# Altium schematic symbol library Schlib1.SchLib: 57 symbols (part 2 of 2)
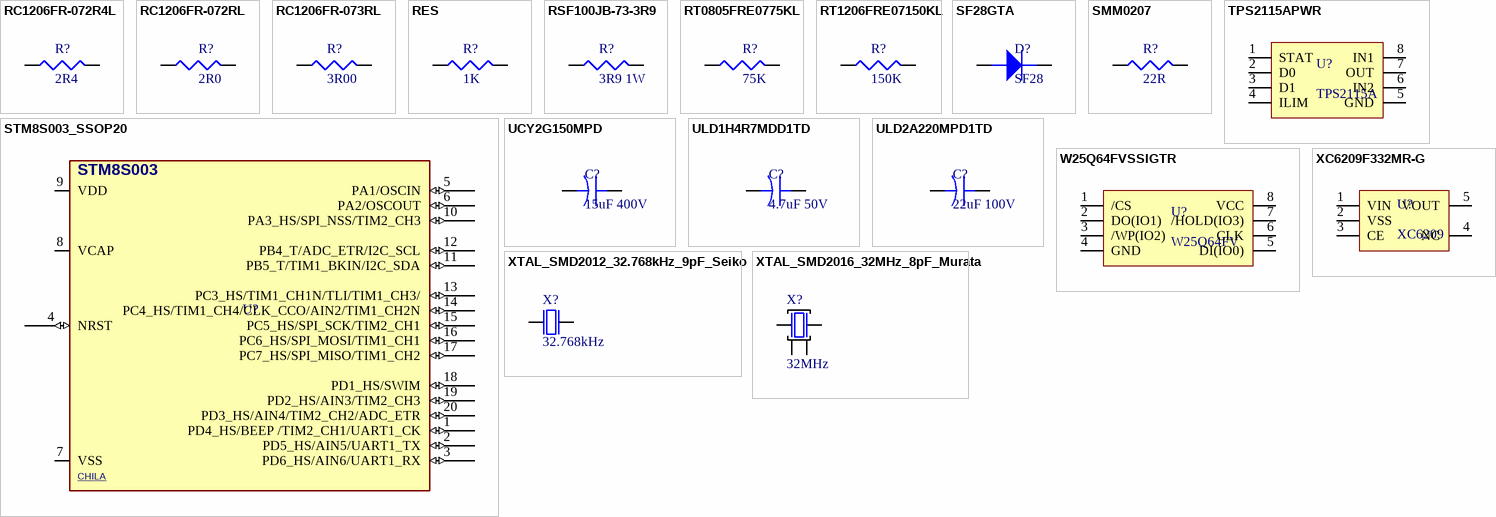
[diagram p2: symbols RC1206FR-072R4L to XTAL_SMD2016_32MHz_8pF_Murata]

## UCY2G150MPD
designator C?, comment 15uF 400V
Aluminum Electrolytic Capacitors - Leaded 400volts 15uF 105c; Manufacturer: Nichicon; Manufacturer Part Number: UCY2G150MPD; Tolerance: 20%; Ripple Current: 180mA; Polarity: Polar; Life (Hours): 8000Hour; Dissipation Factor: 0.24%; Supplier 1: Digi-Key; RoHS: Yes; Category: Aluminum Electrolytic Capacitors; Stock 1: 6558; Pricing 1: 1=1/10000, 10=0/83900, 50=0/69700, 100=0/60030, 500=0/46472, 1000=0/40017, 2500=0/37435, 5000=0/35499 (USD); Mount: Through Hole; Case/Package: Radial; Min Operating Temperature: -40°C; Max Operating Temperature: 105°C; Package Quantity: 200; Capacitance: 15uF; Voltage Rating: 400V; Packaging: Bulk; Voltage Rating (DC): 400V; Termination: Radial; Series: CY; Diameter: 10mm; Length: 20mm; Height: 20mm; Lead Pitch: 5mm; Height - Seated (Max): 0.846inch; Radiation Hardening: No; RoHS Compliant: Yes; ComponentLink1URL: https://datasheet.ciiva.com/114/e-cy-114566.pdf?src-supplier=Digi-Key; ComponentLink1Description: https://datasheet.ciiva.com/114/e-cy-114566.pdf?src-supplier=Digi-Key; ComponentLink2URL: https://datasheet.ciiva.com/11686/e-cy-11686537.pdf?src-supplier=Avnet; ComponentLink2Description: https://datasheet.ciiva.com/11686/e-cy-11686537.pdf?src-supplier=Avnet; ComponentLink3URL: https://datasheet.ciiva.com/17526/e-cy-17526491.pdf?src-supplier=Avnet+Europe; ComponentLink3Description: https://datasheet.ciiva.com/17526/e-cy-17526491.pdf?src-supplier=Avnet+Europe; ComponentLink4URL: https://datasheet.ciiva.com/5329/e-cy-8386-5329868.pdf?src-supplier=Mouser; ComponentLink4Description: https://datasheet.ciiva.com/5329/e-cy-8386-5329868.pdf?src-supplier=Mouser; Supplier Part Number 1: 493-14460-ND
footprint CAP-10x20
footprint CAP-10x20-right
pins: 1, 2

## ULD1H4R7MDD1TD
designator C?, comment 4.7uF 50V
Cap Aluminum 4.7uF 50V 20% Radial Aluminum Cylindrical Can 2mm 80mA 10000 hr 105°C Ammo Pack; Manufacturer: Nichicon; Manufacturer Part Number: ULD1H4R7MDD1TD; Life (Hours): 10000Hour; Leakage Current: 3uA; Supplier 1: Digi-Key; RoHS: Yes; Category: Uncategorized; Stock 1: 4711; Pricing 1: 1=0/30000, 10=0/20800, 50=0/13840, 100=0/11770, 500=0/08308, 1000=0/07269 (USD); Case/Package: Radial; Max Operating Temperature: 105°C; Termination: Radial; Packaging: Ammo Pack; Voltage Rating (DC): 50V; Tolerance: 20%; Ripple Current: 80mA; Package Quantity: 2000; Capacitance: 4.7uF; Diameter: 5mm; Length: 11mm; ComponentLink1URL: http://www.mouser.com/ds/2/293/e-uld-884079.pdf?src-supplier=Mouser; ComponentLink1Description: http://www.mouser.com/ds/2/293/e-uld-884079.pdf?src-supplier=Mouser; Supplier Part Number 1: 493-16254-1-ND
footprint CAP-5x11
pins: 1, 2

## ULD2A220MPD1TD
designator C?, comment 22uF 100V
Cap Aluminum 22uF 100V 20% Radial Aluminum Cylindrical Can 3.5mm 230mA 10000 hr 105°C Ammo Pack; Manufacturer: Nichicon; Manufacturer Part Number: ULD2A220MPD1TD; Life (Hours): 10000Hour; Leakage Current: 22uA; Supplier 1: Digi-Key; RoHS: Yes; Category: Uncategorized; Stock 1: 4188; Pricing 1: 1=0/50000, 10=0/34700, 50=0/24320, 100=0/20840, 500=0/15628 (USD); Case/Package: Radial; Max Operating Temperature: 105°C; Termination: Radial; Packaging: Ammo Pack; Voltage Rating (DC): 100V; Tolerance: 20%; Ripple Current: 230mA; Package Quantity: 1000; Capacitance: 22uF; Diameter: 8mm; Length: 11.5mm; ComponentLink1URL: http://www.mouser.com/ds/2/293/e-uld-884079.pdf?src-supplier=Mouser; ComponentLink1Description: http://www.mouser.com/ds/2/293/e-uld-884079.pdf?src-supplier=Mouser; Supplier Part Number 1: 493-16262-1-ND
footprint CAP-8x11.5
pins: 1, 2

## W25Q64FVSSIGTR
designator U?, comment W25Q64FV
IC FLASH 64MBIT 104MHZ 8SOIC; Manufacturer: Winbond; Manufacturer Part Number: W25Q64FVSSIGTR; Interface: SPI,Serial; Memory Type: FLASH,NOR; Supplier 1: Digi-Key; RoHS: Yes; Category: Flash; Case/Package: SOIC; Number of Pins: 8; Min Operating Temperature: -40°C; Max Operating Temperature: 85°C; Package Quantity: 2000; Packaging: Tape and Reel; Frequency: 104MHz; ComponentLink1URL: https://datasheet.ciiva.com/15048/w25q64fv-15048256.pdf?src-supplier=Digi-Key; ComponentLink1Description: https://datasheet.ciiva.com/15048/w25q64fv-15048256.pdf?src-supplier=Digi-Key; Supplier Part Number 1: W25Q64FVSSIG CT-ND
footprint SOIC-8-208mil
pins: 1 /CS, 2 DO(IO1), 3 /WP(IO2), 4 GND, 5 DI(IO0), 6 CLK, 7 /HOLD(IO3), 8 VCC

## XC6209F332MR-G
designator U?, comment XC6209
IC REG LINEAR 3.3V 300MA SOT25; Manufacturer: Torex; Manufacturer Part Number: XC6209F332MR-G; Dropout Voltage: 200mV; Number of Regulators: 1; Supplier 1: Digi-Key; RoHS: Yes; Category: Voltage Regulators - Linear; Stock 1: 3357; Pricing 1: 1=0/70000, 10=0/61200, 25=0/57520, 100=0/46930, 250=0/43592, 500=0/37100, 1000=0/29680 (USD); Mount: Surface Mount; Case/Package: SOT-25; Min Operating Temperature: -40°C; Max Operating Temperature: 85°C; Package Quantity: 1; Packaging: Tape and Reel; Output Voltage: 3.3V; Output Current: 300mA; Series: -; RoHS Compliant: Yes; ComponentLink1URL: https://datasheet.ciiva.com/2039/xc6209-12-2039748.pdf?src-supplier=Digi-Key; ComponentLink1Description: https://datasheet.ciiva.com/2039/xc6209-12-2039748.pdf?src-supplier=Digi-Key; ComponentLink2URL: https://datasheet.ciiva.com/2039/xc6209-12-2039749.pdf?src-supplier=Digi-Key; ComponentLink2Description: https://datasheet.ciiva.com/2039/xc6209-12-2039749.pdf?src-supplier=Digi-Key; ComponentLink3URL: https://datasheet.ciiva.com/2039/xc6209-12-2039750.pdf?src-supplier=Digi-Key; ComponentLink3Description: https://datasheet.ciiva.com/2039/xc6209-12-2039750.pdf?src-supplier=Digi-Key; Supplier Part Number 1: 893-1070-1-ND
footprint SOT-25
pins: 1 VIN, 2 VSS, 3 CE, 4 NC, 5 VOUT

## XTAL_SMD2012_32.768kHz_9pF_Seiko
designator X?, comment 32.768kHz
XTAL SMD 2012, 32.768kHz, 9pF, ±20ppm; Part Number: XTAL_SMD2012_32.768kHz_9pF_Seiko; Manufacturer: Seiko; Manufacturer Part Number: SC20S-9.0PF20PPM; Part number IPS: 80000001425; Note: XTAL SMD 32.768kHz; Artikkelnr Noca: N.A.; LatestRevisionDate: 2017-11-09; Pin Count: 2; Publisher: Nordic Semiconductor; Published: 2015-10-15; Value: 32.768kHz; Footprint Doc: XTAL_2012; ComponentLink1Description: Datasheet; ComponentLink1URL: *; ComponentLink2Description: Supplier link; ComponentLink2URL: *; HelpURL: http://www.sii.co.jp/en/quartz/files/2013/03/file_PRODUCT_MASTER_50811_GRAPHIC03.pdf; Supplier 1: *; Supplier Part Number 1: *; Supplier 2: *; Supplier Part Number 2: *
footprint XTAL_2012
pins: 1 inp, 2 out

## XTAL_SMD2016_32MHz_8pF_Murata
designator X?, comment 32MHz
XTAL SMD 2016, 32MHz, Cl=8pF, Tol: ±10ppm, Stab: ±10ppm; Part Number: XTAL_SMD2016_32MHz_8pF_Murata; Manufacturer: Murata; Manufacturer Part Number: XRCGB32M000F1H01R0; Part number IPS: 80000001424; Note: XTAL SMD 32.000MHz; Artikkelnr Noca: N.A.; Pad Count: 4; LatestRevisionDate: 2020-09-17; Publisher: Nordic Semiconductor; Published: 2016-10-26; Value: 32MHz; Footprint Doc: XTAL_2016; ComponentLink1Description: Datasheet; ComponentLink1URL: *; ComponentLink2Description: Supplier link; ComponentLink2URL: *; HelpURL: http://www.murata.com/en-global/products/productdetail.aspx?cate=cgsubCrystalUnits&partno=XRCGB32M000F1H01R0; Supplier 1: *; Supplier Part Number 1: *; Supplier 2: *; Supplier Part Number 2: *
footprint BT-XTAL_2016
pins: 1 IN, 2 GND, 3 OUT, 4 GND